# EAGLE library part SN74AVC20T245DGGR (library SN74AVC20T245)
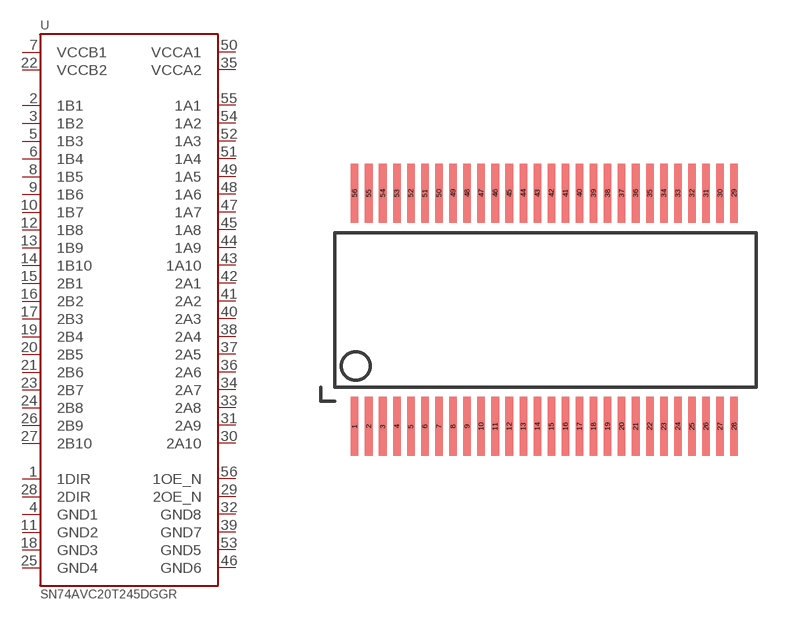
[diagram p0: symbol with the pads of 56-TSSOP; footprint 56-TSSOP]

Designator prefix U

## SN74AVC20T245DGGR  [56-TSSOP]
1  1DIR
2  1B1
3  1B2
4  GND1
5  1B3
6  1B4
7  VCCB1
8  1B5
9  1B6
10  1B7
11  GND2
12  1B8
13  1B9
14  1B10
15  2B1
16  2B2
17  2B3
18  GND3
19  2B4
20  2B5
21  2B6
22  VCCB2
23  2B7
24  2B8
25  GND4
26  2B9
27  2B10
28  2DIR
29  2OE_N
30  2A10
31  2A9
32  GND8
33  2A8
34  2A7
35  VCCA2
36  2A6
37  2A5
38  2A4
39  GND7
40  2A3
41  2A2
42  2A1
43  1A10
44  1A9
45  1A8
46  GND6
47  1A7
48  1A6
49  1A5
50  VCCA1
51  1A4
52  1A3
53  GND5
54  1A2
55  1A1
56  1OE_N

## Footprint 56-TSSOP (pad centres in mm)
smd 0.27 x 2.1: 1 -7.5,-4.15; 2 -7,-4.15; 3 -6.5,-4.15; 4 -6,-4.15; 5 -5.5,-4.15; 6 -5,-4.15; 7 -4.5,-4.15; 8 -4,-4.15; 9 -3.5,-4.15; 10 -3,-4.15; 11 -2.5,-4.15; 12 -2,-4.15; 13 -1.5,-4.15; 14 -1,-4.15; 15 -0.5,-4.15; 16 0,-4.15; 17 0.5,-4.15; 18 1,-4.15; 19 1.5,-4.15; 20 2,-4.15; 21 2.5,-4.15; 22 3,-4.15; 23 3.5,-4.15; 24 4,-4.15; 25 4.5,-4.15; 26 5,-4.15; 27 5.5,-4.15; 28 6,-4.15; 29 6,4.15; 30 5.5,4.15; 31 5,4.15; 32 4.5,4.15; 33 4,4.15; 34 3.5,4.15; 35 3,4.15; 36 2.5,4.15; 37 2,4.15; 38 1.5,4.15; 39 1,4.15; 40 0.5,4.15; 41 0,4.15; 42 -0.5,4.15; 43 -1,4.15; 44 -1.5,4.15; 45 -2,4.15; 46 -2.5,4.15; 47 -3,4.15; 48 -3.5,4.15; 49 -4,4.15; 50 -4.5,4.15; 51 -5,4.15; 52 -5.5,4.15; 53 -6,4.15; 54 -6.5,4.15; 55 -7,4.15; 56 -7.5,4.15